# Altium footprint library MainPcblib.PcbLib: 316 footprints (part 11 of 20)
Each footprint in its own frame and in the unit in brackets; x right, y up, seen from the top. Pads: shape width x height; smd on the part's side, far side on the other; paste and mask are expansions set on the pad; w line width, h text height; cw(c..) or ccw(c..) is an arc to the next point about the centre after c.
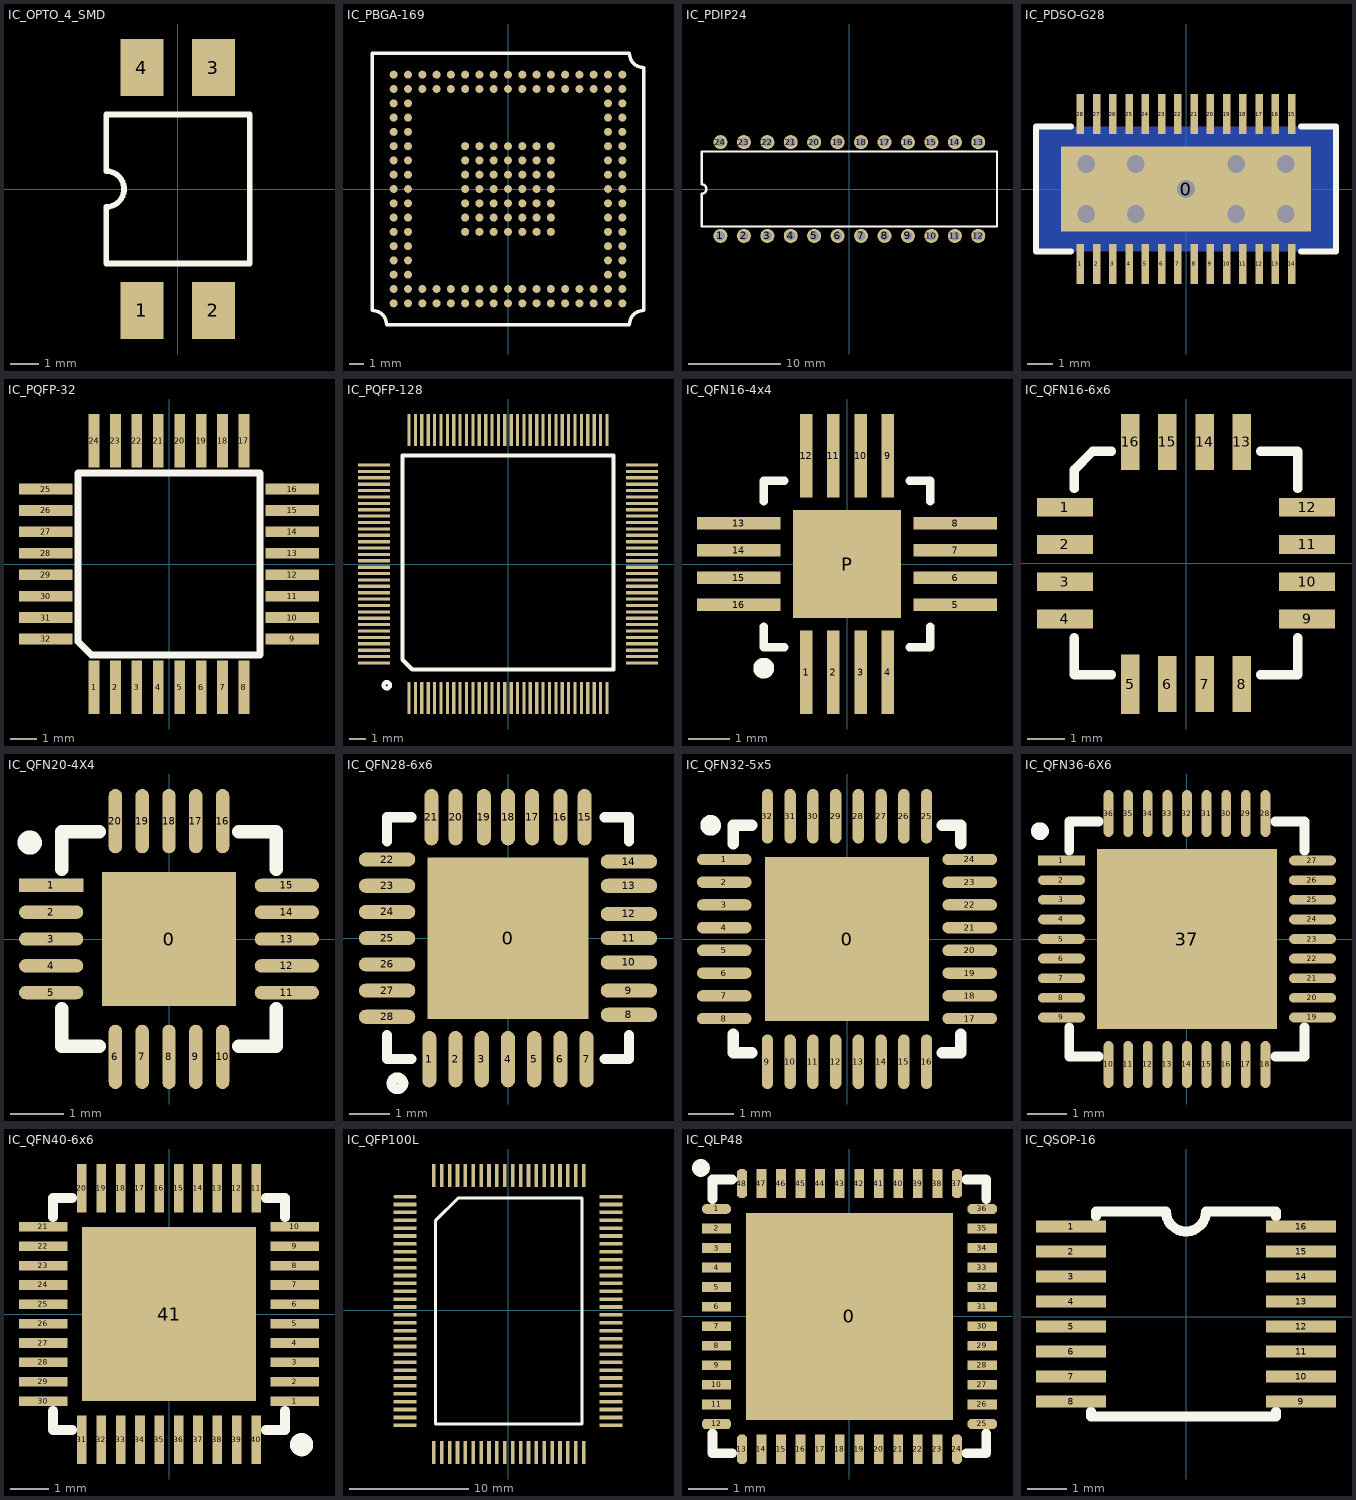
[diagram p10: the footprints below, top view; thin cyan lines are the x and y axes]

## IC_OPTO_4_SMD [mil]
pads (4):
  rect 60x80 smd: 1(-50,-170) 2(50,-170) 3(50,170) 4(-50,170)
Top Overlay:
  lines w7.87: -100.06,-104.32 -100.06,-24.98 ccw(c-100.06,0.02) -100.06,25.02 -100.06,104.35 100.73,104.35 100.73,-104.32 -100.06,-104.32

## IC_PBGA-169 [mm] "For BF532/533"
pads (169):
  round 0.56 smd: A1(-8,8) A2(-7,8) A3(-6,8) A4(-5,8) A5(-4,8) A6(-3,8) A7(-2,8) A8(-1,8) A9(0,8) A10(1,8) A11(2,8) A12(3,8) A13(4,8) A14(5,8) A15(6,8) A16(7,8) A17(8,8) B1(-8,7) B2(-7,7) B3(-6,7) B4(-5,7) B5(-4,7) B6(-3,7) B7(-2,7) B8(-1,7) B9(0,7) B10(1,7) B11(2,7) B12(3,7) B13(4,7) B14(5,7) B15(6,7) B16(7,7) B17(8,7) C1(-8,6) C2(-7,6) C16(7,6) C17(8,6) D1(-8,5) D2(-7,5) D16(7,5) D17(8,5) E1(-8,4) E2(-7,4) E16(7,4) E17(8,4) F1(-8,3) F2(-7,3) F6(3,3) F7(2,3) F8(1,3) F9(0,3) F10(-1,3) F11(-2,3) F12(-3,3) F16(7,3) F17(8,3) G1(-8,2) G2(-7,2) G6(3,2) G7(2,2) G8(1,2) G9(0,2) G10(-1,2) G11(-2,2) G12(-3,2) G16(7,2) G17(8,2) H1(-8,1) H2(-7,1) H6(3,1) H7(2,1) H8(1,1) H9(0,1) H10(-1,1) H11(-2,1) H12(-3,1) H16(7,1) H17(8,1) J1(-8,0) J2(-7,0) J3(7,0) J4(8,0) J6(3,0) J7(2,0) J8(1,0) J9(0,0) J10(-1,0) J11(-2,0) J12(-3,0) K1(-8,-1) K2(-7,-1) K6(3,-1) K7(2,-1) K8(1,-1) K9(0,-1) K10(-1,-1) K11(-2,-1) K12(-3,-1) K16(7,-1) K17(8,-1) L1(-8,-2) L2(-7,-2) L6(3,-2) L7(2,-2) L8(1,-2) L9(0,-2) L10(-1,-2) L11(-2,-2) L12(-3,-2) L16(7,-2) L17(8,-2) M1(-8,-3) M2(-7,-3) M6(3,-3) M7(2,-3) M8(1,-3) M9(0,-3) M10(-1,-3) M11(-2,-3) M12(-3,-3) M16(7,-3) M17(8,-3) N1(-8,-4) N2(-7,-4) N16(7,-4) N17(8,-4) P1(-8,-5) P2(-7,-5) P3(7,-5) P4(8,-5) R1(-8,-6) R2(-7,-6) R16(7,-6) R17(8,-6) T1(-8,-7) T2(-7,-7) T3(-6,-7) T4(-5,-7) T5(-4,-7) T6(-3,-7) T7(-2,-7) T8(-1,-7) T9(0,-7) T10(1,-7) T11(2,-7) T12(3,-7) T13(4,-7) T14(5,-7) T15(6,-7) T16(7,-7) T17(8,-7) T18(-8,-8) T19(-7,-8) T20(-6,-8) T21(-5,-8) T22(-4,-8) T23(-3,-8) T24(-2,-8) T25(-1,-8) T26(0,-8) T27(1,-8) T28(2,-8) T29(3,-8) T30(4,-8) T31(5,-8) T32(6,-8) T33(7,-8) T34(8,-8)
Top Overlay:
  lines w0.254: -9.5,-8.5 cw(c-9.5,-9.5) -8.5,-9.5 8.5,-9.5 cw(c9.5,-9.5) 9.5,-8.5 9.5,8.5 cw(c9.5,9.5) 8.5,9.5 -9.5,9.5 -9.5,-8.5

## IC_PDIP24 [mil]
pads (24):
  round 60 hole 39: 1(-550,-200) 2(-450,-200) 3(-350,-200) 4(-250,-200) 5(-150,-200) 6(-50,-200) 7(50,-200) 8(150,-200) 9(250,-200) 10(350,-200) 11(450,-200) 12(550,-200) 13(550,200) 14(450,200) 15(350,200) 16(250,200) 17(150,200) 18(50,200) 19(-50,200) 20(-150,200) 21(-250,200) 22(-350,200) 23(-450,200) 24(-550,200)
Top Overlay:
  lines w10: -630,-160 -630,-20 ccw(c-630,0) -630,20 -630,160 630,160 630,-160 -630,-160

## IC_PDSO-G28 [mm] "For TPS767D301"
height 2
pads (29):
  rect 10x3.4 smd mask+0.102: 0(0,0)
  rect 0.3x1.6 smd mask+0.07: 1(-4.225,-3) 2(-3.575,-3) 3(-2.925,-3) 4(-2.275,-3) 5(-1.625,-3) 6(-0.975,-3) 7(-0.325,-3) 8(0.325,-3) 9(0.975,-3) 10(1.625,-3) 11(2.275,-3) 12(2.925,-3) 13(3.575,-3) 14(4.225,-3) 15(4.225,3) 16(3.575,3) 17(2.925,3) 18(2.275,3) 19(1.625,3) 20(0.975,3) 21(0.325,3) 22(-0.325,3) 23(-0.975,3) 24(-1.625,3) 25(-2.275,3) 26(-2.925,3) 27(-3.575,3) 28(-4.225,3)
via -4,1 diameter 1.27 hole 0.7
via -4,-1 diameter 1.27 hole 0.7
via -2,-1 diameter 1.27 hole 0.7
via -2,1 diameter 1.27 hole 0.7
via 4,-1 diameter 1.27 hole 0.7
via 4,1 diameter 1.27 hole 0.7
via 0,0 diameter 1.27 hole 0.7
via 2,1 diameter 1.27 hole 0.7
via 2,-1 diameter 1.27 hole 0.7
Bottom Layer:
  rectangle: -6,-2.5 6,2.5
Top Overlay:
  lines w0.254: -4.6,-2.5 -6,-2.5 -6,2.5 -4.6,2.5 ; 4.6,-2.5 6,-2.5 6,2.5 4.6,2.5
Top Solder:
  rectangle: -3.2,-1.2 3.2,1.2

## IC_PQFP-32 [mm] "For PCM2706"
height 1.2
pads (32):
  rect 0.4x2 smd: 1(-2.8,-4.6) 2(-2,-4.6) 3(-1.2,-4.6) 4(-0.4,-4.6) 5(0.4,-4.6) 6(1.2,-4.6) 7(2,-4.6) 8(2.8,-4.6) 17(2.8,4.6) 18(2,4.6) 19(1.2,4.6) 20(0.4,4.6) 21(-0.4,4.6) 22(-1.2,4.6) 23(-2,4.6) 24(-2.8,4.6)
  rect 2x0.4 smd: 9(4.6,-2.8) 10(4.6,-2) 11(4.6,-1.2) 12(4.6,-0.4) 13(4.6,0.4) 14(4.6,1.2) 15(4.6,2) 16(4.6,2.8) 25(-4.6,2.8) 26(-4.6,2) 27(-4.6,1.2) 28(-4.6,0.4) 29(-4.6,-0.4) 30(-4.6,-1.2) 31(-4.6,-2) 32(-4.6,-2.8)
Top Overlay:
  lines w0.254: -3.4,-2.9 -3.4,3.4 3.4,3.4 3.4,-3.4 -2.9,-3.4 -3.4,-2.9

## IC_PQFP-128 [mm] "for TMS320F2810"
height 2
pads (128):
  rect 0.2x2 smd: 1(-6.2,-8.4) 2(-5.8,-8.4) 3(-5.4,-8.4) 4(-5,-8.4) 5(-4.6,-8.4) 6(-4.2,-8.4) 7(-3.8,-8.4) 8(-3.4,-8.4) 9(-3,-8.4) 10(-2.6,-8.4) 11(-2.2,-8.4) 12(-1.8,-8.4) 13(-1.4,-8.4) 14(-1,-8.4) 15(-0.6,-8.4) 16(-0.2,-8.4) 17(0.2,-8.4) 18(0.6,-8.4) 19(1,-8.4) 20(1.4,-8.4) 21(1.8,-8.4) 22(2.2,-8.4) 23(2.6,-8.4) 24(3,-8.4) 25(3.4,-8.4) 26(3.8,-8.4) 27(4.2,-8.4) 28(4.6,-8.4) 29(5,-8.4) 30(5.4,-8.4) 31(5.8,-8.4) 32(6.2,-8.4) 65(6.2,8.4) 66(5.8,8.4) 67(5.4,8.4) 68(5,8.4) 69(4.6,8.4) 70(4.2,8.4) 71(3.8,8.4) 72(3.4,8.4) 73(3,8.4) 74(2.6,8.4) 75(2.2,8.4) 76(1.8,8.4) 77(1.4,8.4) 78(1,8.4) 79(0.6,8.4) 80(0.2,8.4) 81(-0.2,8.4) 82(-0.6,8.4) 83(-1,8.4) 84(-1.4,8.4) 85(-1.8,8.4) 86(-2.2,8.4) 87(-2.6,8.4) 88(-3,8.4) 89(-3.4,8.4) 90(-3.8,8.4) 91(-4.2,8.4) 92(-4.6,8.4) 93(-5,8.4) 94(-5.4,8.4) 95(-5.8,8.4) 96(-6.2,8.4)
  rect 2x0.2 smd: 33(8.4,-6.2) 34(8.4,-5.8) 35(8.4,-5.4) 36(8.4,-5) 37(8.4,-4.6) 38(8.4,-4.2) 39(8.4,-3.8) 40(8.4,-3.4) 41(8.4,-3) 42(8.4,-2.6) 43(8.4,-2.2) 44(8.4,-1.8) 45(8.4,-1.4) 46(8.4,-1) 47(8.4,-0.6) 48(8.4,-0.2) 49(8.4,0.2) 50(8.4,0.6) 51(8.4,1) 52(8.4,1.4) 53(8.4,1.8) 54(8.4,2.2) 55(8.4,2.6) 56(8.4,3) 57(8.4,3.4) 58(8.4,3.8) 59(8.4,4.2) 60(8.4,4.6) 61(8.4,5) 62(8.4,5.4) 63(8.4,5.8) 64(8.4,6.2) 97(-8.4,6.2) 98(-8.4,5.8) 99(-8.4,5.4) 100(-8.4,5) 101(-8.4,4.6) 102(-8.4,4.2) 103(-8.4,3.8) 104(-8.4,3.4) 105(-8.4,3) 106(-8.4,2.6) 107(-8.4,2.2) 108(-8.4,1.8) 109(-8.4,1.4) 110(-8.4,1) 111(-8.4,0.6) 112(-8.4,0.2) 113(-8.4,-0.2) 114(-8.4,-0.6) 115(-8.4,-1) 116(-8.4,-1.4) 117(-8.4,-1.8) 118(-8.4,-2.2) 119(-8.4,-2.6) 120(-8.4,-3) 121(-8.4,-3.4) 122(-8.4,-3.8) 123(-8.4,-4.2) 124(-8.4,-4.6) 125(-8.4,-5) 126(-8.4,-5.4) 127(-8.4,-5.8) 128(-8.4,-6.2)
Top Overlay:
  circle w0.254: c-7.6,-7.6 r0.2
  lines w0.254: -6.6,-6 -6.6,6.8 6.6,6.8 6.6,-6.6 -5.4,-6.6 -6,-6.6 -6.6,-6

## IC_QFN16-4x4 [mm]
pads (17):
  rect 0.3x2 smd: 1(-0.975,-2.6) 2(-0.325,-2.6) 3(0.325,-2.6) 4(0.975,-2.6) 9(0.975,2.6) 10(0.325,2.6) 11(-0.325,2.6) 12(-0.975,2.6)
  rect 2x0.3 smd: 5(2.6,-0.975) 6(2.6,-0.325) 7(2.6,0.325) 8(2.6,0.975) 13(-2.6,0.975) 14(-2.6,0.325) 15(-2.6,-0.325) 16(-2.6,-0.975)
  rect 2.6x2.6 smd: P(0,0)
Top Overlay:
  circle w0.25: c-2,-2.5 r0.125
  lines w0.203: -2,-1.5 -2,-2 -1.5,-2 ; -2,1.5 -2,2 -1.5,2 ; 1.5,-2 2,-2 2,-1.5 ; 1.5,2 2,2 2,1.5

## IC_QFN16-6x6 [mm] "For MMA7260"
pads (16):
  rect 1.5x0.5 smd: 1(-3.25,1.5) 2(-3.25,0.5) 3(-3.25,-0.5) 4(-3.25,-1.5) 9(3.25,-1.5) 10(3.25,-0.5) 11(3.25,0.5) 12(3.25,1.5)
  rect 0.5x1.6 smd: 5(-1.5,-3.25)
  rect 0.5x1.5 smd: 6(-0.5,-3.25) 7(0.5,-3.25) 8(1.5,-3.25) 13(1.5,3.25) 14(0.5,3.25) 15(-0.5,3.25) 16(-1.5,3.25)
Top Overlay:
  lines w0.25: -3,-2 -3,-3 -2,-3 ; -3,2 -3,2.5 -2.5,3 -2,3 ; 2,-3 3,-3 3,-2 ; 2,3 3,3 3,2

## IC_QFN20-4X4 [mm] "For nRF24L01"
height 1.5
pads (21):
  rect 2.5x2.5 smd: 0(0,0)
  rect 1.2x0.25 smd: 1(-2.2,1)
  oval 1.2x0.25 smd: 2(-2.2,0.5) 3(-2.2,0) 4(-2.2,-0.5) 5(-2.2,-1) 11(2.2,-1) 12(2.2,-0.5) 13(2.2,0) 14(2.2,0.5) 15(2.2,1)
  oval 0.25x1.2 smd: 6(-1,-2.2) 7(-0.5,-2.2) 8(0,-2.2) 9(0.5,-2.2) 10(1,-2.2) 16(1,2.2) 17(0.5,2.2) 18(0,2.2) 19(-0.5,2.2) 20(-1,2.2)
Top Overlay:
  circle w0.254: c-2.6,1.8 r0.1
  lines w0.25: -2,-1.3 -2,-2 -1.3,-2 ; -2,1.3 -2,2 -1.3,2 ; 1.3,-2 2,-2 2,-1.3 ; 1.3,2 2,2 2,1.3

## IC_QFN28-6x6 [mm]
pads (29):
  rect 4x4 smd: 0(0,0)
  oval 0.35x1.4 smd: 1(-1.95,-3) 2(-1.3,-3) 3(-0.65,-3) 4(0,-3) 5(0.65,-3) 6(1.3,-3) 7(1.95,-3) 15(1.9,3) 16(1.3,3) 17(0.6,3) 18(0,3) 19(-0.6,3) 20(-1.3,3) 21(-1.9,3)
  oval 1.4x0.35 smd: 8(3,-1.9) 9(3,-1.3) 10(3,-0.6) 11(3,0) 12(3,0.6) 13(3,1.3) 14(3,1.9) 22(-3,1.95) 23(-3,1.3) 24(-3,0.65) 25(-3,0) 26(-3,-0.65) 27(-3,-1.3) 28(-3,-1.95)
Top Overlay:
  circle w0.254: c-2.741,-3.6 r0.141
  lines w0.254: -3,-2.4 -3,-3 -2.4,-3 ; -3,2.4 -3,3 -2.4,3 ; 2.4,-3 3,-3 3,-2.4 ; 2.4,3 3,3 3,2.4

## IC_QFN32-5x5 [mm]
pads (33):
  rect 3.6x3.6 smd: 0(0,0)
  oval 1.2x0.25 smd: 1(-2.7,1.75) 2(-2.7,1.25) 3(-2.7,0.75) 4(-2.7,0.25) 5(-2.7,-0.25) 6(-2.7,-0.75) 7(-2.7,-1.25) 8(-2.7,-1.75) 17(2.7,-1.75) 18(2.7,-1.25) 19(2.7,-0.75) 20(2.7,-0.25) 21(2.7,0.25) 22(2.7,0.75) 23(2.7,1.25) 24(2.7,1.75)
  oval 0.25x1.2 smd: 9(-1.75,-2.7) 10(-1.25,-2.7) 11(-0.75,-2.7) 12(-0.25,-2.7) 13(0.25,-2.7) 14(0.75,-2.7) 15(1.25,-2.7) 16(1.75,-2.7) 25(1.75,2.7) 26(1.25,2.7) 27(0.75,2.7) 28(0.25,2.7) 29(-0.25,2.7) 30(-0.75,2.7) 31(-1.25,2.7) 32(-1.75,2.7)
Top Overlay:
  circle w0.254: c-3,2.5 r0.1
  lines w0.254: -2.5,-2.1 -2.5,-2.5 -2.1,-2.5 ; -2.5,2.1 -2.5,2.5 -2.1,2.5 ; 2.1,-2.5 2.5,-2.5 2.5,-2.1 ; 2.1,2.5 2.5,2.5 2.5,2.1

## IC_QFN36-6X6 [mm] "For nRF24E1"
height 2
pads (37):
  rect 1.2x0.25 smd: 1(-3.2,2)
  oval 1.2x0.25 smd: 2(-3.2,1.5) 3(-3.2,1) 4(-3.2,0.5) 5(-3.2,0) 6(-3.2,-0.5) 7(-3.2,-1) 8(-3.2,-1.5) 9(-3.2,-2) 19(3.2,-2) 20(3.2,-1.5) 21(3.2,-1) 22(3.2,-0.5) 23(3.2,0) 24(3.2,0.5) 25(3.2,1) 26(3.2,1.5) 27(3.2,2)
  oval 0.25x1.2 smd: 10(-2,-3.2) 11(-1.5,-3.2) 12(-1,-3.2) 13(-0.5,-3.2) 14(0,-3.2) 15(0.5,-3.2) 16(1,-3.2) 17(1.5,-3.2) 18(2,-3.2) 28(2,3.2) 29(1.5,3.2) 30(1,3.2) 31(0.5,3.2) 32(0,3.2) 33(-0.5,3.2) 34(-1,3.2) 35(-1.5,3.2) 36(-2,3.2)
  rect 4.6x4.6 smd: 37(0,0)
Top Overlay:
  circle w0.254: c-3.75,2.75 r0.1
  lines w0.25: -3,-2.25 -3,-3 -2.25,-3 ; -3,2.25 -3,3 -2.25,3 ; 2.25,-3 3,-3 3,-2.25 ; 2.25,3 3,3 3,2.25

## IC_QFN40-6x6 [mm] "for MRF24J40"
height 1
pads (41):
  rect 1.25x0.25 smd: 1(3.25,-2.25) 2(3.25,-1.75) 3(3.25,-1.25) 4(3.25,-0.75) 5(3.25,-0.25) 6(3.25,0.25) 7(3.25,0.75) 8(3.25,1.25) 9(3.25,1.75) 10(3.25,2.25) 21(-3.25,2.25) 22(-3.25,1.75) 23(-3.25,1.25) 24(-3.25,0.75) 25(-3.25,0.25) 26(-3.25,-0.25) 27(-3.25,-0.75) 28(-3.25,-1.25) 29(-3.25,-1.75) 30(-3.25,-2.25)
  rect 0.25x1.25 smd: 11(2.25,3.25) 12(1.75,3.25) 13(1.25,3.25) 14(0.75,3.25) 15(0.25,3.25) 16(-0.25,3.25) 17(-0.75,3.25) 18(-1.25,3.25) 19(-1.75,3.25) 20(-2.25,3.25) 31(-2.25,-3.25) 32(-1.75,-3.25) 33(-1.25,-3.25) 34(-0.75,-3.25) 35(-0.25,-3.25) 36(0.25,-3.25) 37(0.75,-3.25) 38(1.25,-3.25) 39(1.75,-3.25) 40(2.25,-3.25)
  rect 4.5x4.5 smd: 41(0,0)
Top Overlay:
  circle w0.3: c3.425,-3.375 r0.15
  lines w0.254: -3,-2.5 -3,-3 -2.5,-3 ; -3,2.5 -3,3 -2.5,3 ; 2.5,-3 3,-3 3,-2.5 ; 2.5,3 3,3 3,2.5

## IC_QFP100L [mil]
pads (100):
  oval 75x12 smd: 1(-340,375)
  rect 75x12 smd: 2(-340,349) 3(-340,323) 4(-340,297) 5(-340,271) 6(-340,245) 7(-340,219) 8(-340,193) 9(-340,167) 10(-340,141) 11(-340,115) 12(-340,89) 13(-340,63) 14(-340,37) 15(-340,11) 16(-340,-15) 17(-340,-41) 18(-340,-67) 19(-340,-93) 20(-340,-119) 21(-340,-145) 22(-340,-171) 23(-340,-197) 24(-340,-223) 25(-340,-249) 26(-340,-275) 27(-340,-301) 28(-340,-327) 29(-340,-353) 30(-340,-379) 51(339,-379) 52(339,-353) 53(339,-327) 54(339,-301) 55(339,-275) 56(339,-249) 57(339,-223) 58(339,-197) 59(339,-171) 60(339,-145) 61(339,-119) 62(339,-93) 63(339,-67) 64(339,-41) 65(339,-15) 66(339,11) 67(339,37) 68(339,63) 69(339,89) 70(339,115) 71(339,141) 72(339,167) 73(339,193) 74(339,219) 75(339,245) 76(339,271) 77(339,297) 78(339,323) 79(339,349) 80(339,375)
  rect 12x75 smd: 31(-245,-469) 32(-219,-469) 33(-193,-469) 34(-167,-469) 35(-141,-469) 36(-115,-469) 37(-89,-469) 38(-63,-469) 39(-37,-469) 40(-11,-469) 41(15,-469) 42(41,-469) 43(67,-469) 44(93,-469) 45(119,-469) 46(145,-469) 47(171,-469) 48(197,-469) 49(223,-469) 50(249,-469) 81(249,445) 82(223,445) 83(197,445) 84(171,445) 85(145,445) 86(119,445) 87(93,445) 88(67,445) 89(41,445) 90(15,445) 91(-11,445) 92(-37,445) 93(-63,445) 94(-89,445) 95(-115,445) 96(-141,445) 97(-167,445) 98(-193,445) 99(-219,445) 100(-245,445)
Top Overlay:
  lines w10: -240,-374 -240,295 -165,370 244,370 244,-374 -240,-374

## IC_QLP48 [mm] "for CC2420"
pads (49):
  rect 5.3x5.3 smd: 0(0,0)
  oval 0.75x0.25 smd: 1(-3.4,2.75)
  rect 0.75x0.25 smd: 2(-3.4,2.25) 3(-3.4,1.75) 5(-3.4,0.75) 6(-3.4,0.25) 7(-3.4,-0.25) 8(-3.4,-0.75) 9(-3.4,-1.25) 10(-3.4,-1.75) 11(-3.4,-2.25) 26(3.4,-2.25) 27(3.4,-1.75) 28(3.4,-1.25) 29(3.4,-0.75) 30(3.4,-0.25) 31(3.4,0.25) 32(3.4,0.75) 33(3.4,1.25) 34(3.4,1.75) 35(3.4,2.25)
  rect 0.75x0.253 smd: 4(-3.4,1.25)
  oct 0.75x0.25 smd: 12(-3.4,-2.75) 25(3.4,-2.75) 36(3.4,2.75)
  oct 0.25x0.75 smd: 13(-2.75,-3.4) 24(2.75,-3.4) 37(2.75,3.4) 48(-2.75,3.4)
  rect 0.25x0.75 smd: 14(-2.25,-3.4) 15(-1.75,-3.4) 16(-1.25,-3.4) 17(-0.75,-3.4) 18(-0.25,-3.4) 19(0.25,-3.4) 20(0.75,-3.4) 21(1.25,-3.4) 22(1.75,-3.4) 23(2.25,-3.4) 38(2.25,3.4) 39(1.75,3.4) 40(1.25,3.4) 41(0.75,3.4) 42(0.25,3.4) 43(-0.25,3.4) 44(-0.75,3.4) 45(-1.25,3.4) 46(-1.75,3.4) 47(-2.25,3.4)
Top Overlay:
  circle w0.254: c-3.8,3.8 r0.1
  lines w0.254: -3.5,-3 -3.5,-3.5 -3,-3.5 ; -3.5,3 -3.5,3.5 -3,3.5 ; 3,-3.5 3.5,-3.5 3.5,-3 ; 3,3.5 3.5,3.5 3.5,3

## IC_QSOP-16 [mil] "For ADuM7440"
height 64.96
pads (16):
  rect 70x12 smd: 1(-115,90) 2(-115,65) 3(-115,40) 4(-115,15) 5(-115,-10) 6(-115,-35) 7(-115,-60) 8(-115,-85) 9(115,-85) 10(115,-60) 11(115,-35) 12(115,-10) 13(115,15) 14(115,40) 15(115,65) 16(115,90)
Top Overlay:
  lines w10: -95,-95 -95,-100 90,-100 90,-95 ; -90,100 -90,105 -20,105 ccw(c0,105) 20,105 90,105 90,100